# Altium schematic symbol library stm32f103cbt6.SchLib: 1 symbol
Pins are listed as number, name and electrical type; pins without a type are passive.

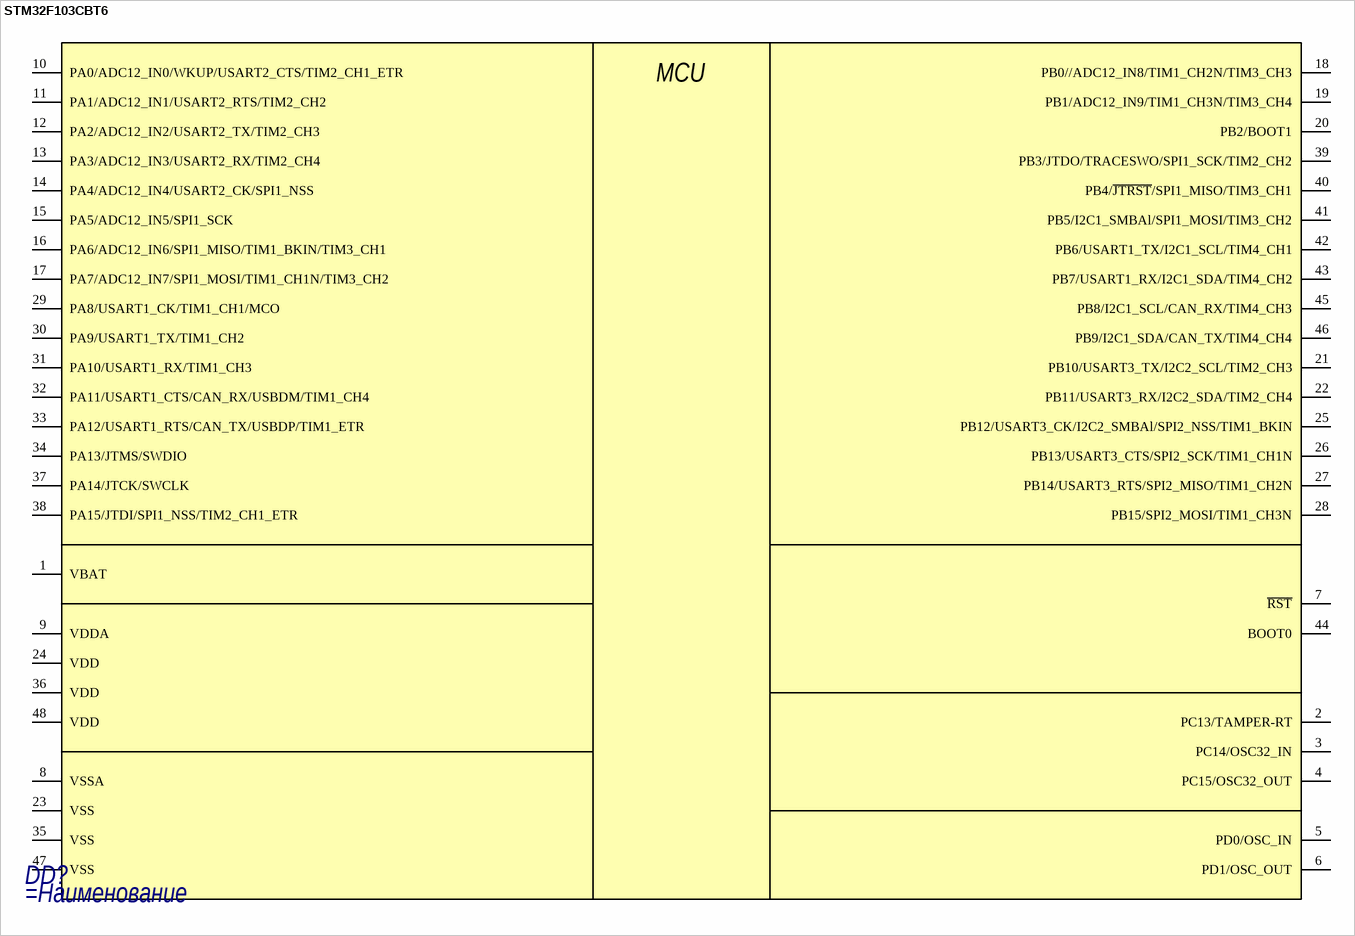
[diagram p0: symbol STM32F103CBT6]

## STM32F103CBT6
designator DD?
=Описание
pins: 1 VBAT, 2 PC13/TAMPER-RT, 3 PC14/OSC32_IN, 4 PC15/OSC32_OUT, 5 PD0/OSC_IN, 6 PD1/OSC_OUT, 7 ~{RST}, 8 VSSA, 9 VDDA, 10 PA0/ADC12_IN0/WKUP/USART2_CTS/TIM2_CH1_ETR, 11 PA1/ADC12_IN1/USART2_RTS/TIM2_CH2, 12 PA2/ADC12_IN2/USART2_TX/TIM2_CH3, 13 PA3/ADC12_IN3/USART2_RX/TIM2_CH4, 14 PA4/ADC12_IN4/USART2_CK/SPI1_NSS, 15 PA5/ADC12_IN5/SPI1_SCK, 16 PA6/ADC12_IN6/SPI1_MISO/TIM1_BKIN/TIM3_CH1, 17 PA7/ADC12_IN7/SPI1_MOSI/TIM1_CH1N/TIM3_CH2, 18 PB0//ADC12_IN8/TIM1_CH2N/TIM3_CH3, 19 PB1/ADC12_IN9/TIM1_CH3N/TIM3_CH4, 20 PB2/BOOT1, 21 PB10/USART3_TX/I2C2_SCL/TIM2_CH3, 22 PB11/USART3_RX/I2C2_SDA/TIM2_CH4, 23 VSS, 24 VDD, 25 PB12/USART3_CK/I2C2_SMBAl/SPI2_NSS/TIM1_BKIN, 26 PB13/USART3_CTS/SPI2_SCK/TIM1_CH1N, 27 PB14/USART3_RTS/SPI2_MISO/TIM1_CH2N, 28 PB15/SPI2_MOSI/TIM1_CH3N, 29 PA8/USART1_CK/TIM1_CH1/MCO, 30 PA9/USART1_TX/TIM1_CH2, 31 PA10/USART1_RX/TIM1_CH3, 32 PA11/USART1_CTS/CAN_RX/USBDM/TIM1_CH4, 33 PA12/USART1_RTS/CAN_TX/USBDP/TIM1_ETR, 34 PA13/JTMS/SWDIO, 35 VSS, 36 VDD, 37 PA14/JTCK/SWCLK, 38 PA15/JTDI/SPI1_NSS/TIM2_CH1_ETR, 39 PB3/JTDO/TRACESWO/SPI1_SCK/TIM2_CH2, 40 PB4/~{JTRST}/SPI1_MISO/TIM3_CH1, 41 PB5/I2C1_SMBAl/SPI1_MOSI/TIM3_CH2, 42 PB6/USART1_TX/I2C1_SCL/TIM4_CH1, 43 PB7/USART1_RX/I2C1_SDA/TIM4_CH2, 44 BOOT0, 45 PB8/I2C1_SCL/CAN_RX/TIM4_CH3, 46 PB9/I2C1_SDA/CAN_TX/TIM4_CH4, 47 VSS, 48 VDD
text: MCU